# Altium schematic symbol library ST7789-13PIN.SchLib: 1 symbol
Pins are listed as number, name and electrical type; pins without a type are passive.

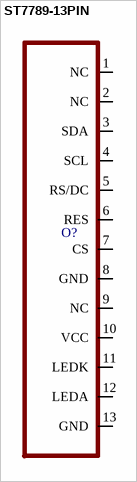
[diagram p0: symbol ST7789-13PIN]

## ST7789-13PIN
designator O?
pins: 1 NC, 2 NC, 3 SDA, 4 SCL, 5 RS/DC, 6 RES, 7 CS, 8 GND, 9 NC, 10 VCC, 11 LEDK, 12 LEDA, 13 GND